# Altium footprint library IFBpcblib.PcbLib: 85 footprints (part 5 of 6)
Each footprint in its own frame and in the unit in brackets; x right, y up, seen from the top. Pads: shape width x height; smd on the part's side, far side on the other; paste and mask are expansions set on the pad; w line width, h text height; cw(c..) or ccw(c..) is an arc to the next point about the centre after c.
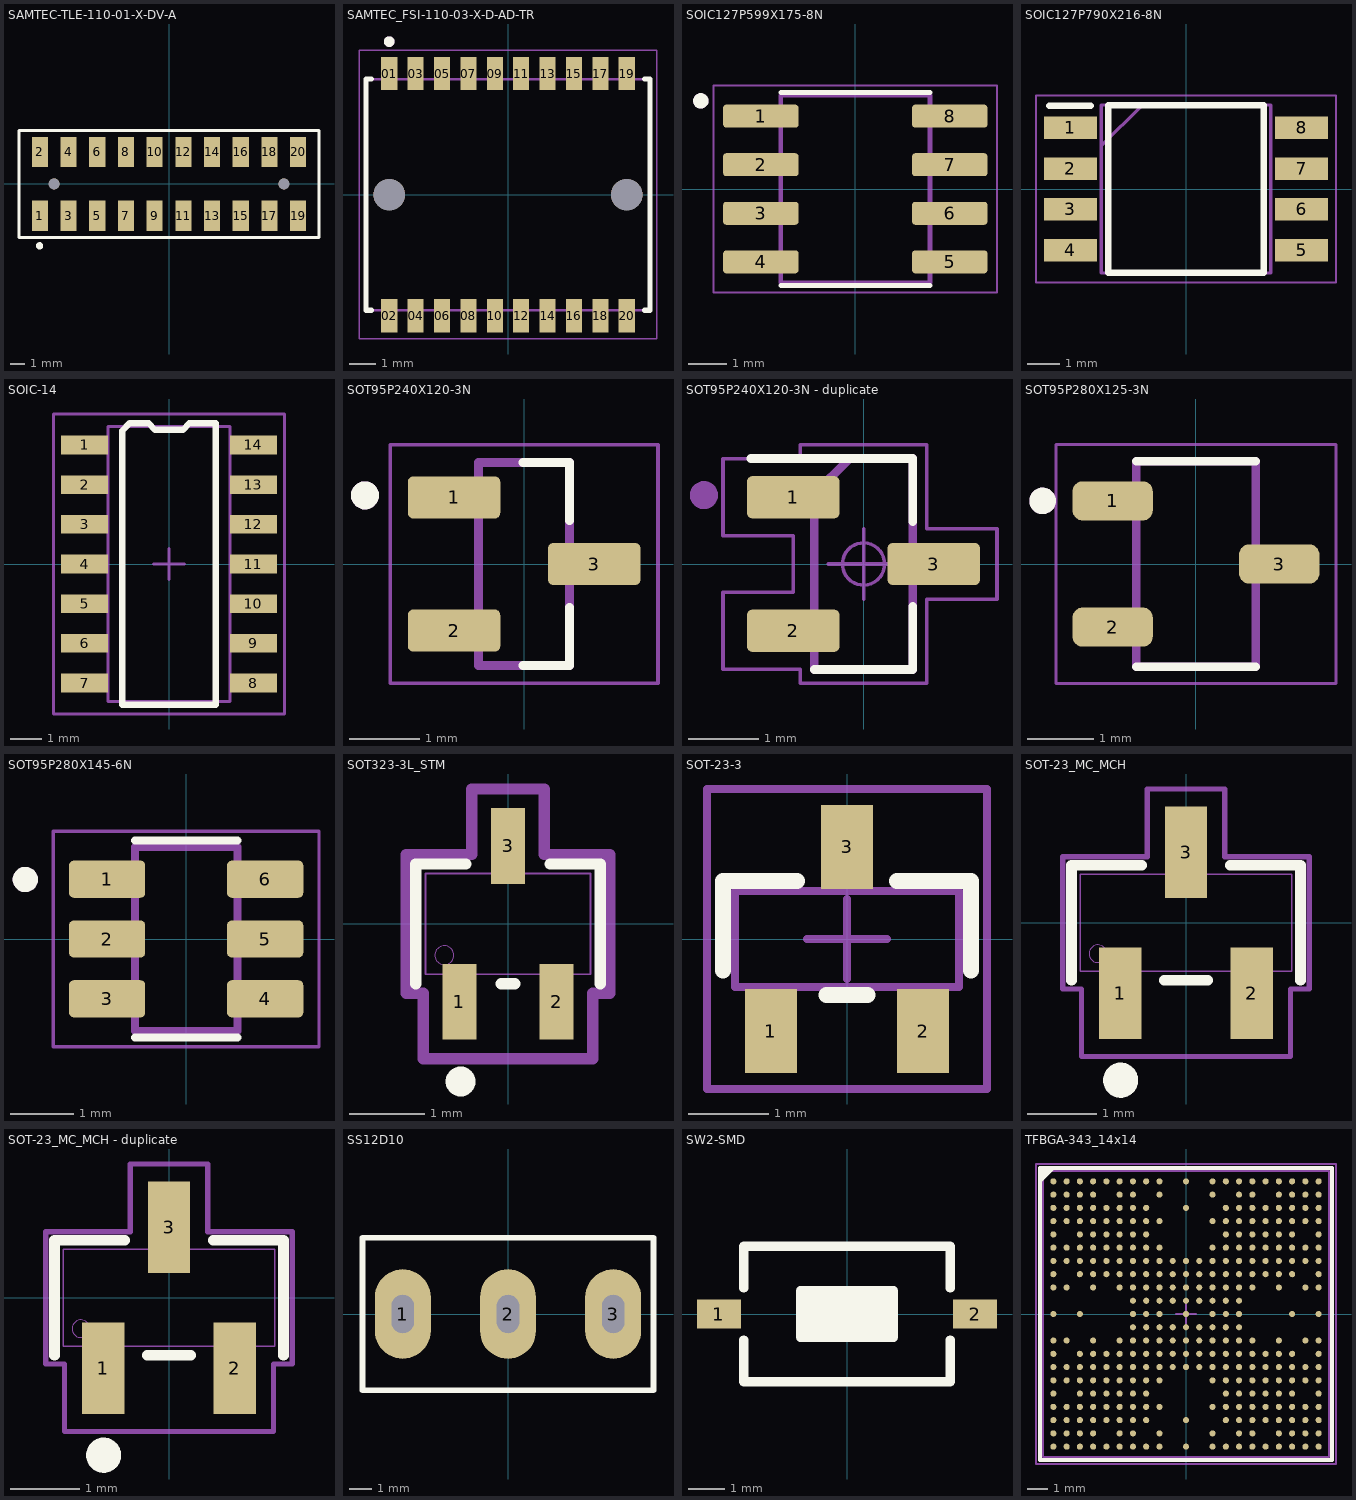
[diagram p4: the footprints below, top view; thin cyan lines are the x and y axes]

## SAMTEC-TLE-110-01-X-DV-A [mm]
pads (22):
  rect 1.12x2.11 smd mask+0: 1(-9,-2.222) 2(-9,2.222) 3(-7,-2.222) 4(-7,2.222) 5(-5,-2.222) 6(-5,2.222) 7(-3,-2.222) 8(-3,2.222) 9(-1,-2.222) 10(-1,2.222) 11(1,-2.222) 12(1,2.222) 13(3,-2.222) 14(3,2.222) 15(5,-2.222) 16(5,2.222) 17(7,-2.222) 18(7,2.222) 19(9,-2.222) 20(9,2.222)
  round 0.76 hole 0.76 unplated: ""(-8,0) ""(8,0)
Top Overlay:
  circle w0.254: c-9.017,-4.318 r0.127
  lines w0.2: -10.45,-3.728 -10.45,3.729 10.45,3.729 10.45,-3.728 -10.45,-3.728
Top Paste:
  region: -8.44,-1.167 -9.56,-1.167 -9.56,-3.277 -8.44,-3.277
  region: -8.44,3.277 -9.56,3.277 -9.56,1.167 -8.44,1.167
  region: -6.44,3.277 -7.56,3.277 -7.56,1.167 -6.44,1.167
  region: -6.44,-1.167 -7.56,-1.167 -7.56,-3.277 -6.44,-3.277
  region: -4.44,3.277 -5.56,3.277 -5.56,1.167 -4.44,1.167
  region: -4.44,-1.167 -5.56,-1.167 -5.56,-3.277 -4.44,-3.277
  region: -2.44,3.277 -3.56,3.277 -3.56,1.167 -2.44,1.167
  region: -2.44,-1.167 -3.56,-1.167 -3.56,-3.277 -2.44,-3.277
  region: -0.44,3.277 -1.56,3.277 -1.56,1.167 -0.44,1.167
  region: -0.44,-1.167 -1.56,-1.167 -1.56,-3.277 -0.44,-3.277
  region: 1.56,3.277 0.44,3.277 0.44,1.167 1.56,1.167
  region: 1.56,-1.167 0.44,-1.167 0.44,-3.277 1.56,-3.277
  region: 3.56,-1.167 2.44,-1.167 2.44,-3.277 3.56,-3.277
  region: 3.56,3.277 2.44,3.277 2.44,1.167 3.56,1.167
  region: 5.56,-1.167 4.44,-1.167 4.44,-3.277 5.56,-3.277
  region: 5.56,3.277 4.44,3.277 4.44,1.167 5.56,1.167
  region: 7.56,3.277 6.44,3.277 6.44,1.167 7.56,1.167
  region: 7.56,-1.167 6.44,-1.167 6.44,-3.277 7.56,-3.277
  region: 9.56,3.277 8.44,3.277 8.44,1.167 9.56,1.167
  region: 9.56,-1.167 8.44,-1.167 8.44,-3.277 9.56,-3.277
Top Solder:
  circle w0: c-8,0 r0.431
  circle w0: c8,0 r0.431
  region: -8.389,3.328 -9.611,3.328 -9.611,1.116 -8.389,1.116
  region: -8.389,-1.116 -9.611,-1.116 -9.611,-3.328 -8.389,-3.328
  region: -6.389,3.328 -7.611,3.328 -7.611,1.116 -6.389,1.116
  region: -6.389,-1.116 -7.611,-1.116 -7.611,-3.328 -6.389,-3.328
  region: -4.389,3.328 -5.611,3.328 -5.611,1.116 -4.389,1.116
  region: -4.389,-1.116 -5.611,-1.116 -5.611,-3.328 -4.389,-3.328
  region: -2.389,3.328 -3.611,3.328 -3.611,1.116 -2.389,1.116
  region: -2.389,-1.116 -3.611,-1.116 -3.611,-3.328 -2.389,-3.328
  region: -0.389,3.328 -1.611,3.328 -1.611,1.116 -0.389,1.116
  region: -0.389,-1.116 -1.611,-1.116 -1.611,-3.328 -0.389,-3.328
  region: 1.611,3.328 0.389,3.328 0.389,1.116 1.611,1.116
  region: 1.611,-1.116 0.389,-1.116 0.389,-3.328 1.611,-3.328
  region: 3.611,3.328 2.389,3.328 2.389,1.116 3.611,1.116
  region: 3.611,-1.116 2.389,-1.116 2.389,-3.328 3.611,-3.328
  region: 5.611,3.328 4.389,3.328 4.389,1.116 5.611,1.116
  region: 5.611,-1.116 4.389,-1.116 4.389,-3.328 5.611,-3.328
  region: 7.611,3.328 6.389,3.328 6.389,1.116 7.611,1.116
  region: 7.611,-1.116 6.389,-1.116 6.389,-3.328 7.611,-3.328
  region: 9.611,3.328 8.389,3.328 8.389,1.116 9.611,1.116
  region: 9.611,-1.116 8.389,-1.116 8.389,-3.328 9.611,-3.328
Bottom Solder:
  circle w0: c-8,0 r0.431
  circle w0: c8,0 r0.431
3D body "TLE-110-01-G-DV-A-TR.stp": height 4.32, standoff -0.81, extent -9.995,-2.781 9.995,2.781

## SAMTEC_FSI-110-03-X-D-AD-TR [mm]
pads (22):
  rect 0.61x1.26 smd: 01(-4.5,4.59) 02(-4.5,-4.59) 03(-3.5,4.59) 04(-3.5,-4.59) 05(-2.5,4.59) 06(-2.5,-4.59) 07(-1.5,4.59) 08(-1.5,-4.59) 09(-0.5,4.59) 10(-0.5,-4.59) 11(0.5,4.59) 12(0.5,-4.59) 13(1.5,4.59) 14(1.5,-4.59) 15(2.5,4.59) 16(2.5,-4.59) 17(3.5,4.59) 18(3.5,-4.59) 19(4.5,4.59) 20(4.5,-4.59)
  round 1.19 hole 1.19 unplated: ""(-4.5,0) ""(4.5,0)
Top Overlay:
  circle w0.2: c-4.5,5.8 r0.1
  lines w0.2: -5.18,-4.38 -5.38,-4.38 -5.38,4.38 -5.18,4.38 ; 5.18,-4.38 5.38,-4.38 5.38,4.38 5.18,4.38
Mechanical 13:
  circle w0.2: c-4.5,5.8 r0.1
  lines w0.1: -5.38,-4.38 -5.38,4.38 5.38,4.38 5.38,-4.38 -5.38,-4.38
Mechanical 15:
  lines w0.05: -5.63,-5.47 -5.63,5.47 5.63,5.47 5.63,-5.47 -5.63,-5.47
3D body "FSI-110-03-G-D-AD.stp": height 4.37, standoff -1.42, extent -5.38,-5 5.38,5

## SOIC127P599X175-8N [mm] "SN65HVD230DR"
pads (8):
  rrect25% 1.97x0.6 smd: 1(-2.47,1.905) 2(-2.47,0.635) 3(-2.47,-0.635) 4(-2.47,-1.905) 5(2.47,-1.905) 6(2.47,-0.635) 7(2.47,0.635) 8(2.47,1.905)
Top Overlay:
  circle w0.2: c-4.04,2.305 r0.1
  lines w0.127: -1.95,-2.525 1.95,-2.525 ; -1.95,2.525 1.95,2.525
Mechanical 13:
  circle w0.2: c-4.04,2.305 r0.1
  lines w0.127: -1.95,-2.452 1.95,-2.452 1.95,2.452 -1.95,2.452 -1.95,-2.452
Mechanical 15:
  lines w0.05: -3.705,-2.702 3.705,-2.702 3.705,2.702 -3.705,2.702 -3.705,-2.702
3D body "step_temp.STEP": height 1.75, standoff 0, extent -3,-2.45 3,2.45

## SOIC127P790X216-8N [mm]
pads (8):
  rect 1.65x0.7 smd: 1(-3.6,1.905) 2(-3.6,0.635) 3(-3.6,-0.635) 4(-3.6,-1.905) 5(3.6,-1.905) 6(3.6,-0.635) 7(3.6,0.635) 8(3.6,1.905)
Top Overlay:
  lines w0.2: -4.267,2.591 -2.972,2.591 ; -2.425,-2.615 -2.425,2.615 2.425,2.615 2.425,-2.615 -2.425,-2.615
Mechanical 15:
  lines w0.1: -2.64,1.345 -1.37,2.615 ; -2.64,-2.615 -2.64,2.615 2.64,2.615 2.64,-2.615 -2.64,-2.615
Mechanical 20:
  lines w0.05: -4.675,-2.915 -4.675,2.915 4.675,2.915 4.675,-2.915 -4.675,-2.915
3D body "AS3004204-0108X0PSAY.stp": height 2.16, standoff 0, extent -3.95,-2.615 3.95,2.615

## SOIC-14 [mm] "SOIC 150mil, 14-Leads, Body 8.65x3.9mm, Pitch 1.27mm"
height 1.75
pads (14):
  rect 1.5x0.6 smd: 1(-2.7,3.81) 2(-2.7,2.54) 3(-2.7,1.27) 4(-2.7,0) 5(-2.7,-1.27) 6(-2.7,-2.54) 7(-2.7,-3.81) 8(2.7,-3.81) 9(2.7,-2.54) 10(2.7,-1.27) 11(2.7,0) 12(2.7,1.27) 13(2.7,2.54) 14(2.7,3.81)
Top Overlay:
  lines w0.2: -1.5,-4.5 -1.5,4.265 -1.265,4.5 -0.65,4.5 -0.45,4.3 0.45,4.3 0.65,4.5 1.5,4.5 1.5,-4.5 -1.5,-4.5
Top Assembly:
  lines w0.1: -1.95,-4.4 1.95,-4.4 1.95,4.4 -1.95,4.4 -1.95,-4.4
  text "1" at -3.429,3.937 h1
Top Courtyard:
  lines w0.1: -0.5,0 0.5,0 ; 0,-0.5 0,0.5 ; -3.7,-4.8 3.7,-4.8 3.7,4.8 -3.7,4.8 -3.7,-4.8
3D body "SOIC-14.STEP": height 1.75, standoff 0, extent -3.1,-4.375 3.1,4.375

## SOT95P240X120-3N [mm]
height 1.2
pads (3):
  rrect25% 1.32x0.6 smd: 1(-1,0.95) 2(-1,-0.95) 3(1,0)
Top Overlay:
  circle w0.2: c-2.27,0.98 r0.1
  lines w0.127: -0.02,-1.45 0.65,-1.45 0.65,-0.62 ; -0.02,1.45 0.65,1.45 0.65,0.62
Mechanical 13:
  circle w0.2: c-2.27,0.98 r0.1
  lines w0.127: -0.65,-1.45 0.65,-1.45 0.65,1.45 -0.65,1.45 -0.65,-1.45
Mechanical 15:
  lines w0.05: -1.91,-1.7 -1.91,1.7 1.91,1.7 1.91,-1.7 -1.91,-1.7
3D body "step_temp.STEP": height 1.2, standoff 0, extent -1.2,-1.45 1.2,1.45

## SOT95P240X120-3N - duplicate [mm]
height 1.2
pads (3):
  rrect25% 1.32x0.6 smd: 1(-1,0.95) 2(-1,-0.95) 3(1,0)
Top Overlay:
  lines w0.125: -1.6,1.5 0.6,1.5 0.7,1.5 0.7,0.6 ; -0.7,-1.5 0.7,-1.5 0.7,-0.6
Top Assembly:
  lines w0.125: -0.7,-1.5 0.7,-1.5 0.7,1.5 -0.2,1.5 -0.7,1 -0.7,-1.5
  text "'.Designator'" at -3.952,-0.622 h1.5
Top Courtyard:
  lines w0.05: -2,-1.5 -2,-0.4 -1,-0.4 -1,0.4 -2,0.4 -2,1.5 -0.9,1.5 -0.9,1.7 0.9,1.7 0.9,0.5 1.9,0.5 1.9,-0.5 0.9,-0.5 0.9,-1.7 -0.9,-1.7 -0.9,-1.5 -2,-1.5
Top Component Center:
  circle w0.05: c0,0 r0.3
  lines w0.05: -0.5,0 0.5,0 ; 0,-0.5 0,0.5
Mechanical 13:
  circle w0.2: c-2.27,0.98 r0.1
3D body "step_temp.STEP": height 1.2, standoff -0.1, extent -1.3,-1.52 1.3,1.52

## SOT95P280X125-3N [mm]
height 1.25
pads (3):
  rrect50% 1.21x0.59 smd: 1(-1.255,0.95) 2(-1.255,-0.95) 3(1.255,0)
Top Overlay:
  circle w0.2: c-2.31,0.95 r0.1
  lines w0.127: -0.9,-1.55 0.9,-1.55 ; -0.9,1.55 0.9,1.55
Mechanical 13:
  circle w0.2: c-2.31,0.95 r0.1
  lines w0.127: -0.9,-1.55 -0.9,1.55 0.9,1.55 0.9,-1.55 -0.9,-1.55
Mechanical 15:
  lines w0.05: -2.11,-1.8 -2.11,1.8 2.11,1.8 2.11,-1.8 -2.11,-1.8
3D body "step_temp.STEP": height 1.25, standoff 0, extent -1.4,-1.45 1.4,1.45

## SOT95P280X145-6N [mm]
pads (6):
  rrect25% 1.21x0.59 smd: 1(-1.255,0.95) 2(-1.255,0) 3(-1.255,-0.95) 4(1.255,-0.95) 5(1.255,0) 6(1.255,0.95)
Top Overlay:
  circle w0.2: c-2.555,0.945 r0.1
  lines w0.127: -0.813,-1.565 0.813,-1.565 ; -0.813,1.565 0.813,1.565
Mechanical 13:
  circle w0.2: c-2.555,0.945 r0.1
  lines w0.127: -0.813,-1.462 -0.813,1.462 0.813,1.462 0.813,-1.462 -0.813,-1.462
Mechanical 15:
  lines w0.05: -2.11,-1.713 2.11,-1.713 2.11,1.713 -2.11,1.713 -2.11,-1.713
3D body "step_temp.STEP": height 1.42, standoff -0.03, extent -1.4,-1.462 1.4,1.462

## SOT323-3L_STM [mil]
pads (3):
  rect 18x40 smd paste+0 mask+0: 1(-25.59,-41) 2(25.59,-41) 3(0,41)
Top Overlay:
  circle w7.87: c-25,-83 r3.94
  lines w6: -48.5,-31.5 -48.5,31.5 -22.1,31.5 ; -3.49,-31.5 3.49,-31.5 ; 22.1,31.5 48.5,31.5 48.5,-31.5
Mechanical 13:
  circle w0: c-33.5,-16.5 r5
  lines w1: -43.5,-26.5 43.5,-26.5 43.5,26.5 -43.5,26.5 -43.5,-26.5 ; -33.59,-47 -33.59,-26.5 -17.59,-26.5 -17.59,-47 -33.59,-47 ; -8,26.5 8,26.5 8,47 -8,47 -8,26.5 ; 17.59,-47 17.59,-26.5 33.59,-26.5 33.59,-47 17.59,-47
Mechanical 15:
  lines w6: -53.5,-36.5 -53.5,36.5 -19,36.5 -19,71 19,71 19,36.5 53.5,36.5 53.5,-36.5 44.59,-36.5 44.59,-71 -44.59,-71 -44.59,-36.5 -53.5,-36.5
3D body "SOT323-3L_STM.step": height 43.11, standoff 0, extent -43.5,-47.01 43.5,47.01

## SOT-23-3 [mm]
pads (3):
  rect 0.65x1.05 smd: 1(-0.95,-1.15) 2(0.95,-1.15) 3(0,1.15)
Top Overlay:
  lines w0.2: -1.552,-0.394 -1.552,0.722 -0.625,0.722 ; -0.254,-0.7 0.254,-0.7 ; 0.625,0.722 1.552,0.722 1.552,-0.394
Top Assembly:
  lines w0.1: -1.4,-0.6 -1.4,0.6 1.4,0.6 1.4,-0.6 -1.4,-0.6 ; -1.175,-1.15 -0.725,-1.15 -0.725,-0.6 -1.175,-0.6 -1.175,-1.15 ; -0.225,0.6 -0.225,1.15 0.225,1.15 0.225,0.6 -0.225,0.6 ; 0.725,-1.15 0.725,-0.6 1.175,-0.6 1.175,-1.15 0.725,-1.15
Top Courtyard:
  lines w0.1: -0.5,0 0.5,0 ; 0,-0.5 0,0.5 ; -1.752,-1.875 -1.752,1.875 1.752,1.875 1.752,-1.875 -1.752,-1.875
3D body "SOT-23.step": height 1.09, standoff -0.01, extent -1.5,-1.25 1.5,1.25

## SOT-23_MC_MCH [mil]
pads (3):
  rect 24x52 smd paste+0 mask+0: 1(-37.4,-39.97) 2(37.4,-39.97) 3(0,39.97)
Top Overlay:
  circle w10: c-37.13,-89.41 r5
  lines w6: -65.04,-32.56 -65.04,32.56 -25.1,32.56 ; -12.3,-32.56 12.3,-32.56 ; 25.1,32.56 65.04,32.56 65.04,-32.56
Mechanical 13:
  circle w0: c-50.04,-17.56 r5
  lines w1: -60.04,-27.56 60.04,-27.56 60.04,27.56 -60.04,27.56 -60.04,-27.56 ; -48.4,-51.97 -48.4,-27.56 -26.4,-27.56 -26.4,-51.97 -48.4,-51.97 ; -11,27.56 11,27.56 11,51.97 -11,51.97 -11,27.56 ; 26.4,-51.97 26.4,-27.56 48.4,-27.56 48.4,-51.97 26.4,-51.97
Mechanical 15:
  lines w3: -70.04,-37.56 -70.04,37.56 -22,37.56 -22,75.97 22,75.97 22,37.56 70.04,37.56 70.04,-37.56 59.4,-37.56 59.4,-75.97 -59.4,-75.97 -59.4,-37.56 -70.04,-37.56
3D body "SOT-23_MC_MCH.step": height 44.17, standoff 0, extent -60.04,-51.97 60.04,51.97

## SOT-23_MC_MCH - duplicate [mil]
pads (3):
  rect 24x52 smd paste+0 mask+0: 1(-37.4,-39.97) 2(37.4,-39.97) 3(0,39.97)
Top Overlay:
  circle w10: c-37.13,-89.41 r5
  lines w6: -65.04,-32.56 -65.04,32.56 -25.1,32.56 ; -12.3,-32.56 12.3,-32.56 ; 25.1,32.56 65.04,32.56 65.04,-32.56
Mechanical 13:
  circle w0: c-50.04,-17.56 r5
  lines w1: -60.04,-27.56 -60.04,27.56 60.04,27.56 60.04,-27.56 -60.04,-27.56 ; -48.4,-51.97 -26.4,-51.97 -26.4,-27.56 -48.4,-27.56 -48.4,-51.97 ; -11,27.56 -11,51.97 11,51.97 11,27.56 -11,27.56 ; 26.4,-51.97 48.4,-51.97 48.4,-27.56 26.4,-27.56 26.4,-51.97
Mechanical 15:
  lines w3: -70.04,-37.56 -59.4,-37.56 -59.4,-75.97 59.4,-75.97 59.4,-37.56 70.04,-37.56 70.04,37.56 22,37.56 22,75.97 -22,75.97 -22,37.56 -70.04,37.56 -70.04,-37.56
3D body "SOT-23_MC_MCH.step": height 44.17, standoff 0, extent -60.04,-51.97 60.04,51.97

## SS12D10 [mm]
pads (3):
  oval 2.5x4 hole 1 slot 1.7 at 90 deg: 1(-4.7,0) 2(0,0) 3(4.7,0)
Top Overlay:
  lines w0.254: -6.5,-3.4 6.5,-3.4 6.5,3.4 -6.5,3.4 -6.5,-3.4
3D body "Basprov1.1 v2.step": height 10.76, standoff -6.33, extent -6.5,-3.4 6.5,3.4

## SW2-SMD [mm]
pads (2):
  rect 1.2x0.8 smd: 1(-3.5,0) 2(3.5,0)
Top Overlay:
  rectangle: -1.27,-0.635 1.27,0.635
  lines w0.254: -2.819,-0.711 -2.819,-1.854 2.819,-1.854 2.819,-0.711 ; -2.819,0.711 -2.819,1.854 2.819,1.854 2.819,0.711 ; -1.27,-0.635 1.27,-0.635 1.27,0.635 -1.27,0.635 -1.27,-0.635
3D body "User Library-Button-SMD.step": height 2.5, standoff 0, extent -3.05,-1.85 3.05,1.85

## TFBGA-343_14x14 [mm] "BGA, 343-Leads, Body 14,00mm x14,00mm, Pitch 0,65mm"
height 1.2
pads (343):
  round 0.3 smd mask+0.05: A1(-6.5,6.5) A2(-5.85,6.5) A3(-5.2,6.5) A4(-4.55,6.5) A5(-3.9,6.5) A6(-3.25,6.5) A7(-2.6,6.5) A8(-1.95,6.5) A9(-1.3,6.5) A11(0,6.5) A13(1.3,6.5) A14(1.95,6.5) A15(2.6,6.5) A16(3.25,6.5) A17(3.9,6.5) A18(4.55,6.5) A19(5.2,6.5) A20(5.85,6.5) A21(6.5,6.5) AA1(-6.5,-6.5) AA2(-5.85,-6.5) AA3(-5.2,-6.5) AA4(-4.55,-6.5) AA5(-3.9,-6.5) AA6(-3.25,-6.5) AA7(-2.6,-6.5) AA8(-1.95,-6.5) AA9(-1.3,-6.5) AA11(0,-6.5) AA13(1.3,-6.5) AA14(1.95,-6.5) AA15(2.6,-6.5) AA16(3.25,-6.5) AA17(3.9,-6.5) AA18(4.55,-6.5) AA19(5.2,-6.5) AA20(5.85,-6.5) AA21(6.5,-6.5) B1(-6.5,5.85) B2(-5.85,5.85) B3(-5.2,5.85) B4(-4.55,5.85) B6(-3.25,5.85) B7(-2.6,5.85) B9(-1.3,5.85) B13(1.3,5.85) B15(2.6,5.85) B16(3.25,5.85) B18(4.55,5.85) B19(5.2,5.85) B20(5.85,5.85) B21(6.5,5.85) C1(-6.5,5.2) C2(-5.85,5.2) C3(-5.2,5.2) C4(-4.55,5.2) C5(-3.9,5.2) C6(-3.25,5.2) C7(-2.6,5.2) C8(-1.95,5.2) C11(0,5.2) C14(1.95,5.2) C15(2.6,5.2) C16(3.25,5.2) C17(3.9,5.2) C18(4.55,5.2) C19(5.2,5.2) C20(5.85,5.2) C21(6.5,5.2) D1(-6.5,4.55) D2(-5.85,4.55) D3(-5.2,4.55) D4(-4.55,4.55) D5(-3.9,4.55) D6(-3.25,4.55) D7(-2.6,4.55) D8(-1.95,4.55) D9(-1.3,4.55) D13(1.3,4.55) D14(1.95,4.55) D15(2.6,4.55) D16(3.25,4.55) D17(3.9,4.55) D18(4.55,4.55) D19(5.2,4.55) D20(5.85,4.55) D21(6.5,4.55) E1(-6.5,3.9) E3(-5.2,3.9) E4(-4.55,3.9) E5(-3.9,3.9) E6(-3.25,3.9) E7(-2.6,3.9) E8(-1.95,3.9) E14(1.95,3.9) E15(2.6,3.9) E16(3.25,3.9) E17(3.9,3.9) E18(4.55,3.9) E19(5.2,3.9) E21(6.5,3.9) F1(-6.5,3.25) F2(-5.85,3.25) F3(-5.2,3.25) F4(-4.55,3.25) F5(-3.9,3.25) F6(-3.25,3.25) F7(-2.6,3.25) F8(-1.95,3.25) F9(-1.3,3.25) F13(1.3,3.25) F14(1.95,3.25) F15(2.6,3.25) F16(3.25,3.25) F17(3.9,3.25) F18(4.55,3.25) F19(5.2,3.25) F20(5.85,3.25) F21(6.5,3.25) G1(-6.5,2.6) G2(-5.85,2.6) G3(-5.2,2.6) G4(-4.55,2.6) G5(-3.9,2.6) G6(-3.25,2.6) G7(-2.6,2.6) G8(-1.95,2.6) G9(-1.3,2.6) G10(-0.65,2.6) G11(0,2.6) G12(0.65,2.6) G13(1.3,2.6) G14(1.95,2.6) G15(2.6,2.6) G16(3.25,2.6) G17(3.9,2.6) G18(4.55,2.6) G19(5.2,2.6) G20(5.85,2.6) G21(6.5,2.6) H1(-6.5,1.95) H3(-5.2,1.95) H4(-4.55,1.95) H5(-3.9,1.95) H6(-3.25,1.95) H7(-2.6,1.95) H8(-1.95,1.95) H9(-1.3,1.95) H10(-0.65,1.95) H11(0,1.95) H12(0.65,1.95) H13(1.3,1.95) H14(1.95,1.95) H15(2.6,1.95) H16(3.25,1.95) H17(3.9,1.95) H18(4.55,1.95) H19(5.2,1.95) H21(6.5,1.95) J1(-6.5,1.3) J2(-5.85,1.3) J4(-4.55,1.3) J6(-3.25,1.3) J7(-2.6,1.3) J8(-1.95,1.3) J9(-1.3,1.3) J10(-0.65,1.3) J11(0,1.3) J12(0.65,1.3) J13(1.3,1.3) J14(1.95,1.3) J15(2.6,1.3) J16(3.25,1.3) J18(4.55,1.3) J20(5.85,1.3) J21(6.5,1.3) K7(-2.6,0.65) K8(-1.95,0.65) K9(-1.3,0.65) K10(-0.65,0.65) K11(0,0.65) K12(0.65,0.65) K13(1.3,0.65) K14(1.95,0.65) K15(2.6,0.65) L1(-6.5,0) L3(-5.2,0) L7(-2.6,0) L8(-1.95,0) L9(-1.3,0) L11(0,0) L13(1.3,0) L14(1.95,0) L15(2.6,0) L19(5.2,0) L21(6.5,0) M7(-2.6,-0.65) M8(-1.95,-0.65) M9(-1.3,-0.65) M10(-0.65,-0.65) M11(0,-0.65) M12(0.65,-0.65) M13(1.3,-0.65) M14(1.95,-0.65) M15(2.6,-0.65) N1(-6.5,-1.3) N2(-5.85,-1.3) N4(-4.55,-1.3) N6(-3.25,-1.3) N7(-2.6,-1.3) N8(-1.95,-1.3) N9(-1.3,-1.3) N10(-0.65,-1.3) N11(0,-1.3) N12(0.65,-1.3) N13(1.3,-1.3) N14(1.95,-1.3) N15(2.6,-1.3) N16(3.25,-1.3) N18(4.55,-1.3) N20(5.85,-1.3) N21(6.5,-1.3) P1(-6.5,-1.95) P3(-5.2,-1.95) P4(-4.55,-1.95) P5(-3.9,-1.95) P6(-3.25,-1.95) P7(-2.6,-1.95) P8(-1.95,-1.95) P9(-1.3,-1.95) P10(-0.65,-1.95) P11(0,-1.95) P12(0.65,-1.95) P13(1.3,-1.95) P14(1.95,-1.95) P15(2.6,-1.95) P16(3.25,-1.95) P17(3.9,-1.95) P18(4.55,-1.95) P19(5.2,-1.95) P21(6.5,-1.95) R1(-6.5,-2.6) R2(-5.85,-2.6) R3(-5.2,-2.6) R4(-4.55,-2.6) R5(-3.9,-2.6) R6(-3.25,-2.6) R7(-2.6,-2.6) R8(-1.95,-2.6) R9(-1.3,-2.6) R10(-0.65,-2.6) R11(0,-2.6) R12(0.65,-2.6) R13(1.3,-2.6) R14(1.95,-2.6) R15(2.6,-2.6) R16(3.25,-2.6) R17(3.9,-2.6) R18(4.55,-2.6) R19(5.2,-2.6) R20(5.85,-2.6) R21(6.5,-2.6) T1(-6.5,-3.25) T2(-5.85,-3.25) T3(-5.2,-3.25) T4(-4.55,-3.25) T5(-3.9,-3.25) T6(-3.25,-3.25) T7(-2.6,-3.25) T8(-1.95,-3.25) T9(-1.3,-3.25) T13(1.3,-3.25) T14(1.95,-3.25) T15(2.6,-3.25) T16(3.25,-3.25) T17(3.9,-3.25) T18(4.55,-3.25) T19(5.2,-3.25) T20(5.85,-3.25) T21(6.5,-3.25) U1(-6.5,-3.9) U3(-5.2,-3.9) U4(-4.55,-3.9) U5(-3.9,-3.9) U6(-3.25,-3.9) U7(-2.6,-3.9) U8(-1.95,-3.9) U14(1.95,-3.9) U15(2.6,-3.9) U16(3.25,-3.9) U17(3.9,-3.9) U18(4.55,-3.9) U19(5.2,-3.9) U21(6.5,-3.9) V1(-6.5,-4.55) V2(-5.85,-4.55) V3(-5.2,-4.55) V4(-4.55,-4.55) V5(-3.9,-4.55) V6(-3.25,-4.55) V7(-2.6,-4.55) V8(-1.95,-4.55) V9(-1.3,-4.55) V13(1.3,-4.55) V14(1.95,-4.55) V15(2.6,-4.55) V16(3.25,-4.55) V17(3.9,-4.55) V18(4.55,-4.55) V19(5.2,-4.55) V20(5.85,-4.55) V21(6.5,-4.55) W1(-6.5,-5.2) W2(-5.85,-5.2) W3(-5.2,-5.2) W4(-4.55,-5.2) W5(-3.9,-5.2) W6(-3.25,-5.2) W7(-2.6,-5.2) W8(-1.95,-5.2) W11(0,-5.2) W14(1.95,-5.2) W15(2.6,-5.2) W16(3.25,-5.2) W17(3.9,-5.2) W18(4.55,-5.2) W19(5.2,-5.2) W20(5.85,-5.2) W21(6.5,-5.2) Y1(-6.5,-5.85) Y2(-5.85,-5.85) Y3(-5.2,-5.85) Y4(-4.55,-5.85) Y6(-3.25,-5.85) Y7(-2.6,-5.85) Y9(-1.3,-5.85) Y13(1.3,-5.85) Y15(2.6,-5.85) Y16(3.25,-5.85) Y18(4.55,-5.85) Y19(5.2,-5.85) Y20(5.85,-5.85) Y21(6.5,-5.85)
Top Overlay:
  region: -7.15,7.15 -6.4,7.15 -7.15,6.4
  lines w0.2: -7.15,-7.15 7.15,-7.15 7.15,7.15 -7.15,7.15 -7.15,-7.15
  text "." at -8.15,6.425 h1
Top Assembly:
  lines w0.1: -7,-7 7,-7 7,7 -7,7 -7,-7
  text "A1" at -6.8,5.825 h1
  text ".Designator" at -0.975,-0.3 h1
Top Courtyard:
  lines w0.1: -0.5,0 0.5,0 ; 0,-0.5 0,0.5 ; -7.35,-7.35 -7.35,7.35 7.35,7.35 7.35,-7.35 -7.35,-7.35
3D body: height 1.22, standoff 0.72, extent -6.475,5.876 -5.877,6.474
3D body: height 0.3, standoff -0.04, extent -2.77,-0.812 -2.438,-0.488
3D body: height 0.3, standoff -0.04, extent -2.12,-0.812 -1.788,-0.488
3D body: height 0.3, standoff -0.04, extent -1.47,-0.812 -1.138,-0.488
3D body: height 0.3, standoff -0.04, extent -0.82,-0.812 -0.488,-0.488
3D body: height 0.3, standoff -0.04, extent -0.17,-0.812 0.162,-0.488
3D body: height 0.3, standoff -0.04, extent 0.48,-0.812 0.812,-0.488
3D body: height 0.3, standoff -0.04, extent 1.13,-0.812 1.462,-0.488
3D body: height 0.3, standoff -0.04, extent 1.78,-0.812 2.112,-0.488
3D body: height 0.3, standoff -0.04, extent 2.43,-0.812 2.762,-0.488
3D body: height 0.3, standoff -0.04, extent -6.67,-1.462 -6.338,-1.138
3D body: height 0.3, standoff -0.04, extent -6.02,-1.462 -5.688,-1.138
3D body: height 0.3, standoff -0.04, extent -4.72,-1.462 -4.388,-1.138
3D body: height 0.3, standoff -0.04, extent -3.42,-1.462 -3.088,-1.138
3D body: height 0.3, standoff -0.04, extent -2.77,-1.462 -2.438,-1.138
3D body: height 0.3, standoff -0.04, extent -2.12,-1.462 -1.788,-1.138
3D body: height 0.3, standoff -0.04, extent -1.47,-1.462 -1.138,-1.138
3D body: height 0.3, standoff -0.04, extent -0.82,-1.462 -0.488,-1.138
3D body: height 0.3, standoff -0.04, extent -0.17,-1.462 0.162,-1.138
3D body: height 0.3, standoff -0.04, extent 0.48,-1.462 0.812,-1.138
3D body: height 0.3, standoff -0.04, extent 1.13,-1.462 1.462,-1.138
3D body: height 0.3, standoff -0.04, extent 1.78,-1.462 2.112,-1.138
3D body: height 0.3, standoff -0.04, extent 2.43,-1.462 2.762,-1.138
3D body: height 0.3, standoff -0.04, extent 3.08,-1.462 3.412,-1.138
3D body: height 0.3, standoff -0.04, extent 4.38,-1.462 4.712,-1.138
3D body: height 0.3, standoff -0.04, extent 5.68,-1.462 6.012,-1.138
3D body: height 0.3, standoff -0.04, extent 6.33,-1.462 6.662,-1.138
3D body: height 0.3, standoff -0.04, extent -6.67,-2.112 -6.338,-1.788
3D body: height 0.3, standoff -0.04, extent -5.37,-2.112 -5.038,-1.788
3D body: height 0.3, standoff -0.04, extent -4.72,-2.112 -4.388,-1.788
3D body: height 0.3, standoff -0.04, extent -4.07,-2.112 -3.738,-1.788
3D body: height 0.3, standoff -0.04, extent -3.42,-2.112 -3.088,-1.788
3D body: height 0.3, standoff -0.04, extent -2.77,-2.112 -2.438,-1.788
3D body: height 0.3, standoff -0.04, extent -2.12,-2.112 -1.788,-1.788
3D body: height 0.3, standoff -0.04, extent -1.47,-2.112 -1.138,-1.788
3D body: height 0.3, standoff -0.04, extent -0.82,-2.112 -0.488,-1.788
3D body: height 0.3, standoff -0.04, extent -0.17,-2.112 0.162,-1.788
3D body: height 0.3, standoff -0.04, extent 0.48,-2.112 0.812,-1.788
3D body: height 0.3, standoff -0.04, extent 1.13,-2.112 1.462,-1.788
3D body: height 0.3, standoff -0.04, extent 1.78,-2.112 2.112,-1.788
3D body: height 0.3, standoff -0.04, extent 2.43,-2.112 2.762,-1.788
3D body: height 0.3, standoff -0.04, extent 3.08,-2.112 3.412,-1.788
3D body: height 0.3, standoff -0.04, extent 3.73,-2.112 4.062,-1.788
3D body: height 0.3, standoff -0.04, extent 4.38,-2.112 4.712,-1.788
3D body: height 0.3, standoff -0.04, extent 5.03,-2.112 5.362,-1.788
3D body: height 0.3, standoff -0.04, extent 6.33,-2.112 6.662,-1.788
3D body: height 0.3, standoff -0.04, extent -6.67,-6.662 -6.338,-6.338
3D body: height 0.3, standoff -0.04, extent -6.02,-6.662 -5.688,-6.338
3D body: height 0.3, standoff -0.04, extent -5.37,-6.662 -5.038,-6.338
3D body: height 0.3, standoff -0.04, extent -4.72,-6.662 -4.388,-6.338
3D body: height 0.3, standoff -0.04, extent -4.07,-6.662 -3.738,-6.338
3D body: height 0.3, standoff -0.04, extent -3.42,-6.662 -3.088,-6.338
3D body: height 0.3, standoff -0.04, extent -2.77,-6.662 -2.438,-6.338
3D body: height 0.3, standoff -0.04, extent -2.12,-6.662 -1.788,-6.338
3D body: height 0.3, standoff -0.04, extent -1.47,-6.662 -1.138,-6.338
3D body: height 0.3, standoff -0.04, extent -0.17,-6.662 0.162,-6.338
3D body: height 0.3, standoff -0.04, extent 1.13,-6.662 1.462,-6.338
3D body: height 0.3, standoff -0.04, extent 1.78,-6.662 2.112,-6.338
3D body: height 0.3, standoff -0.04, extent 2.43,-6.662 2.762,-6.338
3D body: height 0.3, standoff -0.04, extent 3.08,-6.662 3.412,-6.338
3D body: height 0.3, standoff -0.04, extent 3.73,-6.662 4.062,-6.338
3D body: height 0.3, standoff -0.04, extent 4.38,-6.662 4.712,-6.338
3D body: height 0.3, standoff -0.04, extent 5.03,-6.662 5.362,-6.338
3D body: height 0.3, standoff -0.04, extent 5.68,-6.662 6.012,-6.338
3D body: height 0.3, standoff -0.04, extent -6.67,-2.762 -6.338,-2.438
3D body: height 0.3, standoff -0.04, extent -6.02,-2.762 -5.688,-2.438
3D body: height 0.3, standoff -0.04, extent -5.37,-2.762 -5.038,-2.438
3D body: height 0.3, standoff -0.04, extent -4.72,-2.762 -4.388,-2.438
3D body: height 0.3, standoff -0.04, extent -4.07,-2.762 -3.738,-2.438
3D body: height 0.3, standoff -0.04, extent -3.42,-2.762 -3.088,-2.438
3D body: height 0.3, standoff -0.04, extent -2.77,-2.762 -2.438,-2.438
3D body: height 0.3, standoff -0.04, extent -2.12,-2.762 -1.788,-2.438
3D body: height 0.3, standoff -0.04, extent -1.47,-2.762 -1.138,-2.438
3D body: height 0.3, standoff -0.04, extent -0.82,-2.762 -0.488,-2.438
3D body: height 0.3, standoff -0.04, extent -0.17,-2.762 0.162,-2.438
3D body: height 0.3, standoff -0.04, extent 0.48,-2.762 0.812,-2.438
3D body: height 0.3, standoff -0.04, extent 1.13,-2.762 1.462,-2.438
3D body: height 0.3, standoff -0.04, extent 1.78,-2.762 2.112,-2.438
3D body: height 0.3, standoff -0.04, extent 2.43,-2.762 2.762,-2.438
3D body: height 0.3, standoff -0.04, extent 3.08,-2.762 3.412,-2.438
3D body: height 0.3, standoff -0.04, extent 3.73,-2.762 4.062,-2.438
3D body: height 0.3, standoff -0.04, extent 4.38,-2.762 4.712,-2.438
3D body: height 0.3, standoff -0.04, extent 5.03,-2.762 5.362,-2.438
3D body: height 0.3, standoff -0.04, extent 5.68,-2.762 6.012,-2.438
3D body: height 0.3, standoff -0.04, extent 6.33,-2.762 6.662,-2.438
3D body: height 0.3, standoff -0.04, extent -6.67,-3.412 -6.338,-3.088
3D body: height 0.3, standoff -0.04, extent -6.02,-3.412 -5.688,-3.088
3D body: height 0.3, standoff -0.04, extent -5.37,-3.412 -5.038,-3.088
3D body: height 0.3, standoff -0.04, extent -4.72,-3.412 -4.388,-3.088
3D body: height 0.3, standoff -0.04, extent -4.07,-3.412 -3.738,-3.088
3D body: height 0.3, standoff -0.04, extent -3.42,-3.412 -3.088,-3.088
3D body: height 0.3, standoff -0.04, extent -2.77,-3.412 -2.438,-3.088
3D body: height 0.3, standoff -0.04, extent -2.12,-3.412 -1.788,-3.088
3D body: height 0.3, standoff -0.04, extent -1.47,-3.412 -1.138,-3.088
3D body: height 0.3, standoff -0.04, extent 1.13,-3.412 1.462,-3.088
3D body: height 0.3, standoff -0.04, extent 1.78,-3.412 2.112,-3.088
3D body: height 0.3, standoff -0.04, extent 2.43,-3.412 2.762,-3.088
3D body: height 0.3, standoff -0.04, extent 3.08,-3.412 3.412,-3.088
3D body: height 0.3, standoff -0.04, extent 3.73,-3.412 4.062,-3.088
3D body: height 0.3, standoff -0.04, extent 4.38,-3.412 4.712,-3.088
3D body: height 0.3, standoff -0.04, extent 5.03,-3.412 5.362,-3.088
3D body: height 0.3, standoff -0.04, extent 5.68,-3.412 6.012,-3.088
3D body: height 0.3, standoff -0.04, extent 6.33,-3.412 6.662,-3.088
3D body: height 0.3, standoff -0.04, extent -6.67,-4.062 -6.338,-3.738
3D body: height 0.3, standoff -0.04, extent -5.37,-4.062 -5.038,-3.738
3D body: height 0.3, standoff -0.04, extent -4.72,-4.062 -4.388,-3.738
3D body: height 0.3, standoff -0.04, extent -4.07,-4.062 -3.738,-3.738
3D body: height 0.3, standoff -0.04, extent -3.42,-4.062 -3.088,-3.738
3D body: height 0.3, standoff -0.04, extent -2.77,-4.062 -2.438,-3.738
3D body: height 0.3, standoff -0.04, extent -2.12,-4.062 -1.788,-3.738
3D body: height 0.3, standoff -0.04, extent 1.78,-4.062 2.112,-3.738
3D body: height 0.3, standoff -0.04, extent 2.43,-4.062 2.762,-3.738
3D body: height 0.3, standoff -0.04, extent 3.08,-4.062 3.412,-3.738
3D body: height 0.3, standoff -0.04, extent 3.73,-4.062 4.062,-3.738
3D body: height 0.3, standoff -0.04, extent 4.38,-4.062 4.712,-3.738
3D body: height 0.3, standoff -0.04, extent 5.03,-4.062 5.362,-3.738
3D body: height 0.3, standoff -0.04, extent 6.33,-4.062 6.662,-3.738
3D body: height 0.3, standoff -0.04, extent -6.67,-4.712 -6.338,-4.388
3D body: height 0.3, standoff -0.04, extent -6.02,-4.712 -5.688,-4.388
3D body: height 0.3, standoff -0.04, extent -5.37,-4.712 -5.038,-4.388
3D body: height 0.3, standoff -0.04, extent -4.72,-4.712 -4.388,-4.388
3D body: height 0.3, standoff -0.04, extent -4.07,-4.712 -3.738,-4.388
3D body: height 0.3, standoff -0.04, extent -3.42,-4.712 -3.088,-4.388
3D body: height 0.3, standoff -0.04, extent -2.77,-4.712 -2.438,-4.388
3D body: height 0.3, standoff -0.04, extent -2.12,-4.712 -1.788,-4.388
3D body: height 0.3, standoff -0.04, extent -1.47,-4.712 -1.138,-4.388
3D body: height 0.3, standoff -0.04, extent 1.13,-4.712 1.462,-4.388
3D body: height 0.3, standoff -0.04, extent 1.78,-4.712 2.112,-4.388
3D body: height 0.3, standoff -0.04, extent 2.43,-4.712 2.762,-4.388
3D body: height 0.3, standoff -0.04, extent 3.08,-4.712 3.412,-4.388
3D body: height 0.3, standoff -0.04, extent 3.73,-4.712 4.062,-4.388
3D body: height 0.3, standoff -0.04, extent 4.38,-4.712 4.712,-4.388
3D body: height 0.3, standoff -0.04, extent 5.03,-4.712 5.362,-4.388
3D body: height 0.3, standoff -0.04, extent 5.68,-4.712 6.012,-4.388
3D body: height 0.3, standoff -0.04, extent 6.33,-4.712 6.662,-4.388
3D body: height 0.3, standoff -0.04, extent -6.67,-5.362 -6.338,-5.038
3D body: height 0.3, standoff -0.04, extent -6.02,-5.362 -5.688,-5.038
3D body: height 0.3, standoff -0.04, extent -5.37,-5.362 -5.038,-5.038
3D body: height 0.3, standoff -0.04, extent -4.72,-5.362 -4.388,-5.038
3D body: height 0.3, standoff -0.04, extent -4.07,-5.362 -3.738,-5.038
3D body: height 0.3, standoff -0.04, extent -3.42,-5.362 -3.088,-5.038
3D body: height 0.3, standoff -0.04, extent -2.77,-5.362 -2.438,-5.038
3D body: height 0.3, standoff -0.04, extent -2.12,-5.362 -1.788,-5.038
3D body: height 0.3, standoff -0.04, extent -0.17,-5.362 0.162,-5.038
3D body: height 0.3, standoff -0.04, extent 1.78,-5.362 2.112,-5.038
3D body: height 0.3, standoff -0.04, extent 2.43,-5.362 2.762,-5.038
3D body: height 0.3, standoff -0.04, extent 3.08,-5.362 3.412,-5.038
3D body: height 0.3, standoff -0.04, extent 3.73,-5.362 4.062,-5.038
3D body: height 0.3, standoff -0.04, extent 4.38,-5.362 4.712,-5.038
3D body: height 0.3, standoff -0.04, extent 5.03,-5.362 5.362,-5.038
3D body: height 0.3, standoff -0.04, extent 5.68,-5.362 6.012,-5.038
3D body: height 0.3, standoff -0.04, extent 6.33,-5.362 6.662,-5.038
3D body: height 0.3, standoff -0.04, extent -6.67,-6.012 -6.338,-5.688
3D body: height 0.3, standoff -0.04, extent -6.02,-6.012 -5.688,-5.688
3D body: height 0.3, standoff -0.04, extent -5.37,-6.012 -5.038,-5.688
3D body: height 0.3, standoff -0.04, extent -4.72,-6.012 -4.388,-5.688
3D body: height 0.3, standoff -0.04, extent -3.42,-6.012 -3.088,-5.688
3D body: height 0.3, standoff -0.04, extent -2.77,-6.012 -2.438,-5.688
3D body: height 0.3, standoff -0.04, extent -1.47,-6.012 -1.138,-5.688
3D body: height 0.3, standoff -0.04, extent 1.13,-6.012 1.462,-5.688
3D body: height 0.3, standoff -0.04, extent 2.43,-6.012 2.762,-5.688
3D body: height 0.3, standoff -0.04, extent 3.08,-6.012 3.412,-5.688
3D body: height 0.3, standoff -0.04, extent 4.38,-6.012 4.712,-5.688
3D body: height 0.3, standoff -0.04, extent 5.03,-6.012 5.362,-5.688
3D body: height 0.3, standoff -0.04, extent 5.68,-6.012 6.012,-5.688
3D body: height 0.3, standoff -0.04, extent 6.33,-6.012 6.662,-5.688
3D body: height 0.3, standoff -0.04, extent 6.334,-6.662 6.666,-6.338
3D body: height 0.3, standoff -0.04, extent 6.338,-0.162 6.67,0.162
3D body: height 0.3, standoff -0.04, extent 5.038,-0.162 5.37,0.162
3D body: height 0.3, standoff -0.04, extent 2.438,-0.162 2.77,0.162
3D body: height 0.3, standoff -0.04, extent 1.788,-0.162 2.12,0.162
3D body: height 0.3, standoff -0.04, extent 1.138,-0.162 1.47,0.162
3D body: height 0.3, standoff -0.04, extent -0.162,-0.162 0.17,0.162
3D body: height 0.3, standoff -0.04, extent -1.462,-0.162 -1.13,0.162
3D body: height 0.3, standoff -0.04, extent -2.112,-0.162 -1.78,0.162
3D body: height 0.3, standoff -0.04, extent -2.762,-0.162 -2.43,0.162
3D body: height 0.3, standoff -0.04, extent -5.362,-0.162 -5.03,0.162
3D body: height 0.3, standoff -0.04, extent -6.662,-0.162 -6.33,0.162
3D body: height 0.3, standoff -0.04, extent 2.438,0.488 2.77,0.812
3D body: height 0.3, standoff -0.04, extent 1.788,0.488 2.12,0.812
3D body: height 0.3, standoff -0.04, extent 1.138,0.488 1.47,0.812
3D body: height 0.3, standoff -0.04, extent 0.488,0.488 0.82,0.812
3D body: height 0.3, standoff -0.04, extent -0.162,0.488 0.17,0.812
3D body: height 0.3, standoff -0.04, extent -0.812,0.488 -0.48,0.812
3D body: height 0.3, standoff -0.04, extent -1.462,0.488 -1.13,0.812
3D body: height 0.3, standoff -0.04, extent -2.112,0.488 -1.78,0.812
3D body: height 0.3, standoff -0.04, extent -2.762,0.488 -2.43,0.812
3D body: height 0.3, standoff -0.04, extent 6.338,1.138 6.67,1.462
3D body: height 0.3, standoff -0.04, extent 5.688,1.138 6.02,1.462
3D body: height 0.3, standoff -0.04, extent 4.388,1.138 4.72,1.462
3D body: height 0.3, standoff -0.04, extent 3.088,1.138 3.42,1.462
3D body: height 0.3, standoff -0.04, extent 2.438,1.138 2.77,1.462
3D body: height 0.3, standoff -0.04, extent 1.788,1.138 2.12,1.462
3D body: height 0.3, standoff -0.04, extent 1.138,1.138 1.47,1.462
3D body: height 0.3, standoff -0.04, extent 0.488,1.138 0.82,1.462
3D body: height 0.3, standoff -0.04, extent -0.162,1.138 0.17,1.462
3D body: height 0.3, standoff -0.04, extent -0.812,1.138 -0.48,1.462
3D body: height 0.3, standoff -0.04, extent -1.462,1.138 -1.13,1.462
3D body: height 0.3, standoff -0.04, extent -2.112,1.138 -1.78,1.462
3D body: height 0.3, standoff -0.04, extent -2.762,1.138 -2.43,1.462
3D body: height 0.3, standoff -0.04, extent -3.412,1.138 -3.08,1.462
3D body: height 0.3, standoff -0.04, extent -4.712,1.138 -4.38,1.462
3D body: height 0.3, standoff -0.04, extent -6.012,1.138 -5.68,1.462
3D body: height 0.3, standoff -0.04, extent -6.662,1.138 -6.33,1.462
3D body: height 0.3, standoff -0.04, extent 6.338,1.788 6.67,2.112
3D body: height 0.3, standoff -0.04, extent 5.038,1.788 5.37,2.112
3D body: height 0.3, standoff -0.04, extent 4.388,1.788 4.72,2.112
3D body: height 0.3, standoff -0.04, extent 3.738,1.788 4.07,2.112
3D body: height 0.3, standoff -0.04, extent 3.088,1.788 3.42,2.112
3D body: height 0.3, standoff -0.04, extent 2.438,1.788 2.77,2.112
3D body: height 0.3, standoff -0.04, extent 1.788,1.788 2.12,2.112
3D body: height 0.3, standoff -0.04, extent 1.138,1.788 1.47,2.112
3D body: height 0.3, standoff -0.04, extent 0.488,1.788 0.82,2.112
3D body: height 0.3, standoff -0.04, extent -0.162,1.788 0.17,2.112
3D body: height 0.3, standoff -0.04, extent -0.812,1.788 -0.48,2.112
3D body: height 0.3, standoff -0.04, extent -1.462,1.788 -1.13,2.112
3D body: height 0.3, standoff -0.04, extent -2.112,1.788 -1.78,2.112
3D body: height 0.3, standoff -0.04, extent -2.762,1.788 -2.43,2.112
3D body: height 0.3, standoff -0.04, extent -3.412,1.788 -3.08,2.112
3D body: height 0.3, standoff -0.04, extent -4.062,1.788 -3.73,2.112
3D body: height 0.3, standoff -0.04, extent -4.712,1.788 -4.38,2.112
3D body: height 0.3, standoff -0.04, extent -5.362,1.788 -5.03,2.112
3D body: height 0.3, standoff -0.04, extent -6.662,1.788 -6.33,2.112
3D body: height 0.3, standoff -0.04, extent 6.338,6.338 6.67,6.662
3D body: height 0.3, standoff -0.04, extent 5.688,6.338 6.02,6.662
3D body: height 0.3, standoff -0.04, extent 5.038,6.338 5.37,6.662
3D body: height 0.3, standoff -0.04, extent 4.388,6.338 4.72,6.662
3D body: height 0.3, standoff -0.04, extent 3.738,6.338 4.07,6.662
3D body: height 0.3, standoff -0.04, extent 3.088,6.338 3.42,6.662
3D body: height 0.3, standoff -0.04, extent 2.438,6.338 2.77,6.662
3D body: height 0.3, standoff -0.04, extent 1.788,6.338 2.12,6.662
3D body: height 0.3, standoff -0.04, extent 1.138,6.338 1.47,6.662
3D body: height 0.3, standoff -0.04, extent -0.162,6.338 0.17,6.662
3D body: height 0.3, standoff -0.04, extent -1.462,6.338 -1.13,6.662
3D body: height 0.3, standoff -0.04, extent -2.112,6.338 -1.78,6.662
3D body: height 0.3, standoff -0.04, extent -2.762,6.338 -2.43,6.662
3D body: height 0.3, standoff -0.04, extent -3.412,6.338 -3.08,6.662
3D body: height 0.3, standoff -0.04, extent -4.062,6.338 -3.73,6.662
3D body: height 0.3, standoff -0.04, extent -4.712,6.338 -4.38,6.662
3D body: height 0.3, standoff -0.04, extent -5.362,6.338 -5.03,6.662
3D body: height 0.3, standoff -0.04, extent -6.012,6.338 -5.68,6.662
3D body: height 0.3, standoff -0.04, extent 6.338,2.438 6.67,2.762
3D body: height 0.3, standoff -0.04, extent 5.688,2.438 6.02,2.762
3D body: height 0.3, standoff -0.04, extent 5.038,2.438 5.37,2.762
3D body: height 0.3, standoff -0.04, extent 4.388,2.438 4.72,2.762
3D body: height 0.3, standoff -0.04, extent 3.738,2.438 4.07,2.762
3D body: height 0.3, standoff -0.04, extent 3.088,2.438 3.42,2.762
3D body: height 0.3, standoff -0.04, extent 2.438,2.438 2.77,2.762
3D body: height 0.3, standoff -0.04, extent 1.788,2.438 2.12,2.762
3D body: height 0.3, standoff -0.04, extent 1.138,2.438 1.47,2.762
3D body: height 0.3, standoff -0.04, extent 0.488,2.438 0.82,2.762
3D body: height 0.3, standoff -0.04, extent -0.162,2.438 0.17,2.762
3D body: height 0.3, standoff -0.04, extent -0.812,2.438 -0.48,2.762
3D body: height 0.3, standoff -0.04, extent -1.462,2.438 -1.13,2.762
3D body: height 0.3, standoff -0.04, extent -2.112,2.438 -1.78,2.762
3D body: height 0.3, standoff -0.04, extent -2.762,2.438 -2.43,2.762
3D body: height 0.3, standoff -0.04, extent -3.412,2.438 -3.08,2.762
3D body: height 0.3, standoff -0.04, extent -4.062,2.438 -3.73,2.762
3D body: height 0.3, standoff -0.04, extent -4.712,2.438 -4.38,2.762
3D body: height 0.3, standoff -0.04, extent -5.362,2.438 -5.03,2.762
3D body: height 0.3, standoff -0.04, extent -6.012,2.438 -5.68,2.762
3D body: height 0.3, standoff -0.04, extent -6.662,2.438 -6.33,2.762
3D body: height 0.3, standoff -0.04, extent 6.338,3.088 6.67,3.412
3D body: height 0.3, standoff -0.04, extent 5.688,3.088 6.02,3.412
3D body: height 0.3, standoff -0.04, extent 5.038,3.088 5.37,3.412
3D body: height 0.3, standoff -0.04, extent 4.388,3.088 4.72,3.412
3D body: height 0.3, standoff -0.04, extent 3.738,3.088 4.07,3.412
3D body: height 0.3, standoff -0.04, extent 3.088,3.088 3.42,3.412
3D body: height 0.3, standoff -0.04, extent 2.438,3.088 2.77,3.412
3D body: height 0.3, standoff -0.04, extent 1.788,3.088 2.12,3.412
3D body: height 0.3, standoff -0.04, extent 1.138,3.088 1.47,3.412
3D body: height 0.3, standoff -0.04, extent -1.462,3.088 -1.13,3.412
3D body: height 0.3, standoff -0.04, extent -2.112,3.088 -1.78,3.412
3D body: height 0.3, standoff -0.04, extent -2.762,3.088 -2.43,3.412
3D body: height 0.3, standoff -0.04, extent -3.412,3.088 -3.08,3.412
3D body: height 0.3, standoff -0.04, extent -4.062,3.088 -3.73,3.412
3D body: height 0.3, standoff -0.04, extent -4.712,3.088 -4.38,3.412
3D body: height 0.3, standoff -0.04, extent -5.362,3.088 -5.03,3.412
3D body: height 0.3, standoff -0.04, extent -6.012,3.088 -5.68,3.412
3D body: height 0.3, standoff -0.04, extent -6.662,3.088 -6.33,3.412
3D body: height 0.3, standoff -0.04, extent 6.338,3.738 6.67,4.062
3D body: height 0.3, standoff -0.04, extent 5.038,3.738 5.37,4.062
3D body: height 0.3, standoff -0.04, extent 4.388,3.738 4.72,4.062
3D body: height 0.3, standoff -0.04, extent 3.738,3.738 4.07,4.062
3D body: height 0.3, standoff -0.04, extent 3.088,3.738 3.42,4.062
3D body: height 0.3, standoff -0.04, extent 2.438,3.738 2.77,4.062
3D body: height 0.3, standoff -0.04, extent 1.788,3.738 2.12,4.062
3D body: height 0.3, standoff -0.04, extent -2.112,3.738 -1.78,4.062
3D body: height 0.3, standoff -0.04, extent -2.762,3.738 -2.43,4.062
3D body: height 0.3, standoff -0.04, extent -3.412,3.738 -3.08,4.062
3D body: height 0.3, standoff -0.04, extent -4.062,3.738 -3.73,4.062
3D body: height 0.3, standoff -0.04, extent -4.712,3.738 -4.38,4.062
3D body: height 0.3, standoff -0.04, extent -5.362,3.738 -5.03,4.062
3D body: height 0.3, standoff -0.04, extent -6.662,3.738 -6.33,4.062
3D body: height 0.3, standoff -0.04, extent 6.338,4.388 6.67,4.712
3D body: height 0.3, standoff -0.04, extent 5.688,4.388 6.02,4.712
3D body: height 0.3, standoff -0.04, extent 5.038,4.388 5.37,4.712
3D body: height 0.3, standoff -0.04, extent 4.388,4.388 4.72,4.712
3D body: height 0.3, standoff -0.04, extent 3.738,4.388 4.07,4.712
3D body: height 0.3, standoff -0.04, extent 3.088,4.388 3.42,4.712
3D body: height 0.3, standoff -0.04, extent 2.438,4.388 2.77,4.712
3D body: height 0.3, standoff -0.04, extent 1.788,4.388 2.12,4.712
3D body: height 0.3, standoff -0.04, extent 1.138,4.388 1.47,4.712
3D body: height 0.3, standoff -0.04, extent -1.462,4.388 -1.13,4.712
3D body: height 0.3, standoff -0.04, extent -2.112,4.388 -1.78,4.712
3D body: height 0.3, standoff -0.04, extent -2.762,4.388 -2.43,4.712
3D body: height 0.3, standoff -0.04, extent -3.412,4.388 -3.08,4.712
3D body: height 0.3, standoff -0.04, extent -4.062,4.388 -3.73,4.712
3D body: height 0.3, standoff -0.04, extent -4.712,4.388 -4.38,4.712
3D body: height 0.3, standoff -0.04, extent -5.362,4.388 -5.03,4.712
3D body: height 0.3, standoff -0.04, extent -6.012,4.388 -5.68,4.712
3D body: height 0.3, standoff -0.04, extent -6.662,4.388 -6.33,4.712
3D body: height 0.3, standoff -0.04, extent 6.338,5.038 6.67,5.362
3D body: height 0.3, standoff -0.04, extent 5.688,5.038 6.02,5.362
3D body: height 0.3, standoff -0.04, extent 5.038,5.038 5.37,5.362
3D body: height 0.3, standoff -0.04, extent 4.388,5.038 4.72,5.362
3D body: height 0.3, standoff -0.04, extent 3.738,5.038 4.07,5.362
3D body: height 0.3, standoff -0.04, extent 3.088,5.038 3.42,5.362
3D body: height 0.3, standoff -0.04, extent 2.438,5.038 2.77,5.362
3D body: height 0.3, standoff -0.04, extent 1.788,5.038 2.12,5.362
3D body: height 0.3, standoff -0.04, extent -0.162,5.038 0.17,5.362
3D body: height 0.3, standoff -0.04, extent -2.112,5.038 -1.78,5.362
3D body: height 0.3, standoff -0.04, extent -2.762,5.038 -2.43,5.362
3D body: height 0.3, standoff -0.04, extent -3.412,5.038 -3.08,5.362
3D body: height 0.3, standoff -0.04, extent -4.062,5.038 -3.73,5.362
3D body: height 0.3, standoff -0.04, extent -4.712,5.038 -4.38,5.362
3D body: height 0.3, standoff -0.04, extent -5.362,5.038 -5.03,5.362
3D body: height 0.3, standoff -0.04, extent -6.012,5.038 -5.68,5.362
3D body: height 0.3, standoff -0.04, extent -6.662,5.038 -6.33,5.362
3D body: height 0.3, standoff -0.04, extent 6.338,5.688 6.67,6.012
3D body: height 0.3, standoff -0.04, extent 5.688,5.688 6.02,6.012
3D body: height 0.3, standoff -0.04, extent 5.038,5.688 5.37,6.012
3D body: height 0.3, standoff -0.04, extent 4.388,5.688 4.72,6.012
3D body: height 0.3, standoff -0.04, extent 3.088,5.688 3.42,6.012
3D body: height 0.3, standoff -0.04, extent 2.438,5.688 2.77,6.012
3D body: height 0.3, standoff -0.04, extent 1.138,5.688 1.47,6.012
3D body: height 0.3, standoff -0.04, extent -1.462,5.688 -1.13,6.012
3D body: height 0.3, standoff -0.04, extent -2.762,5.688 -2.43,6.012
3D body: height 0.3, standoff -0.04, extent -3.412,5.688 -3.08,6.012
3D body: height 0.3, standoff -0.04, extent -4.712,5.688 -4.38,6.012
3D body: height 0.3, standoff -0.04, extent -5.362,5.688 -5.03,6.012
3D body: height 0.3, standoff -0.04, extent -6.012,5.688 -5.68,6.012
3D body: height 0.3, standoff -0.04, extent -6.662,5.688 -6.33,6.012
3D body: height 0.3, standoff -0.04, extent -6.666,6.338 -6.334,6.662
3D body: height 1.2, standoff 0.27, extent -7,-7 7,7